# EAGLE library part 4608X (library resistor-sip)
Bourns 4600X Series - Thick Film Conformal SIPs 4608X-101 Resistor Network Configuration: 101 (Bussed Resistors) Resistance range: 10 ohms to 10 Megaohms Maximum Operating Voltage: 100V Source: http://www.bourns.com/ProductLine.aspx?name=standard_thick_film_networks PDF: http://www.bourns.com/data/global/pdfs/4600X.pdf
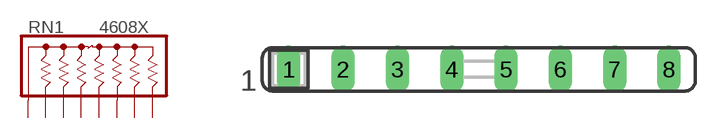
[diagram p3: symbol with the pads of SIP8; footprint SIP8]

Designator prefix RN1

## 4608X  [SIP8]
1  1  pas
2  2  pas
3  3  pas
4  4  pas
5  5  pas
6  6  pas
7  7  pas
8  8  pas

## Footprint SIP8 (pad centres in mm)
Bourns 4608X-101 Resistor Network Source: http://www.bourns.com/data/global/pdfs/4600X.pdf
drill 0.6 long: 1 -8.85,0; 2 -6.31,0; 3 -3.77,0; 4 -1.23,0; 5 1.31,0; 6 3.85,0; 7 6.39,0; 8 8.93,0